# Altium integrated library 691214110003.IntLib: 1 symbol
Pins are listed as number, name and electrical type; pins without a type are passive.

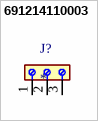
[diagram p0: symbol 691214110003]

## 691214110003
designator J?
PCB Terminal Block [WÃ¼rth Elektronik] 691214110003 PCB Terminal Block; MF: Wurth Electronics; Check_prices: https://www.snapeda.com/parts/691214110003/Wurth+Electronics+Inc./view-part/?ref=eda; Value: *; Purchase-URL: https://pricing.snapeda.com/search/part/691214110003/?ref=eda; Package: None; Price: None; MP: 691214110003; Availability: In Stock; SnapEDA_Link: https://www.snapeda.com/parts/691214110003/Wurth+Electronics+Inc./view-part/?ref=snap
footprint 691214110003
pins: 1, 2, 3